# Altium footprint library Seeed-OPL-ic.PCBLIB: 95 footprints (part 4 of 6)
Each footprint in its own frame and in the unit in brackets; x right, y up, seen from the top. Pads: shape width x height; smd on the part's side, far side on the other; paste and mask are expansions set on the pad; w line width, h text height; cw(c..) or ccw(c..) is an arc to the next point about the centre after c.
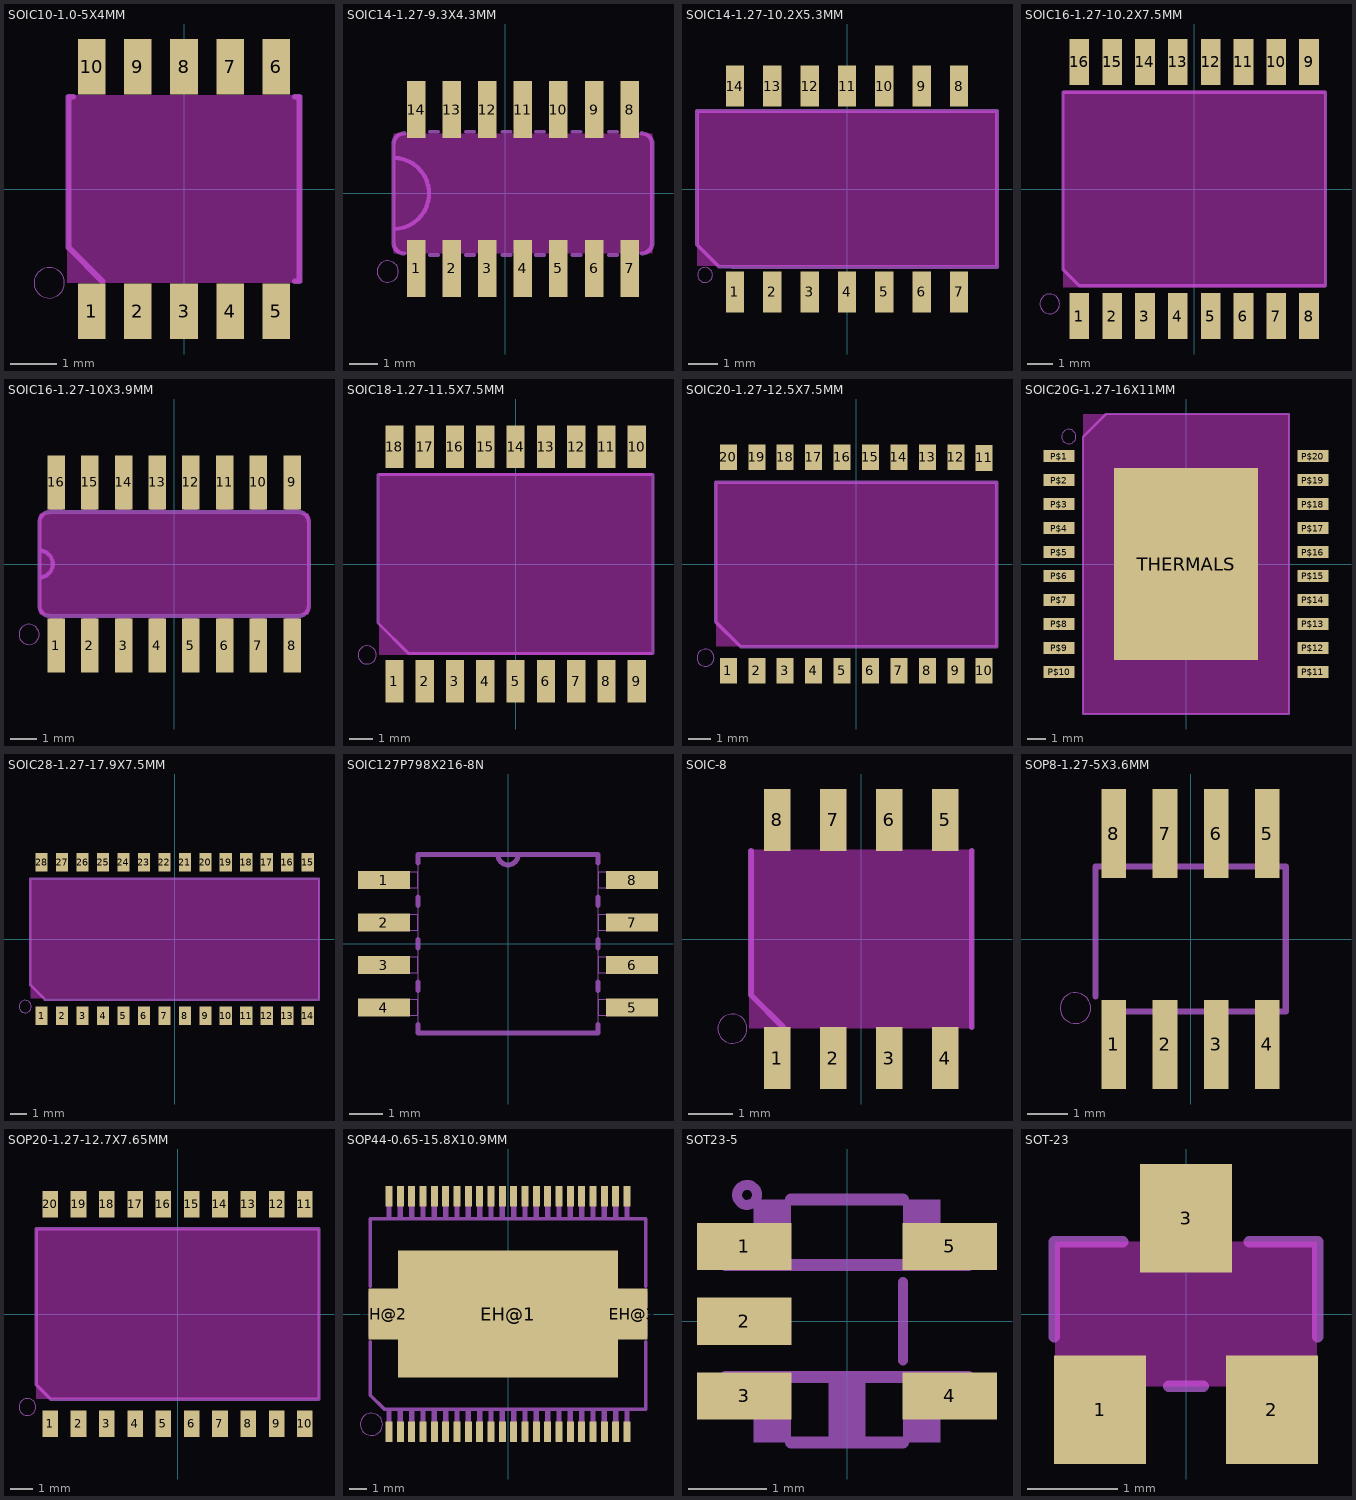
[diagram p3: the footprints below, top view; thin cyan lines are the x and y axes]

## SOIC10-1.0-5X4MM [mm]
pads (10):
  rect 0.6x1.2 smd: 1(-2,-2.65) 2(-1,-2.65) 3(0,-2.65) 4(1,-2.65) 5(2,-2.65) 6(2,2.65) 7(1,2.65) 8(0,2.65) 9(-1,2.65) 10(-2,2.65)
Keep-Out Layer:
  rectangle: -2.54,-2.032 2.54,2.032
Mechanical 2:
  circle w0: c-2.921,-2.032 r0.33
  lines w0.127: -2.4,2 -2.5,2 -2.5,-1.269 -1.769,-2 ; 2.4,-2 2.5,-2 2.5,2 2.4,2

## SOIC14-1.27-9.3X4.3MM [mil]
pads (14):
  rect 26x80 smd: 1(-125,-105.5) 2(-75,-105.5) 3(-25,-105.5) 4(25,-105.5) 5(75,-105.5) 6(125,-105.5) 7(175,-105.5) 8(175,118) 9(125,118) 10(75,118) 11(25,118) 12(-25,118) 13(-75,118) 14(-125,118)
Keep-Out Layer:
  rectangle: -157,-84.5 207,84.5
Mechanical 2:
  circle w0: c-165.16,-109.84 r15
  rectangle: -135,-89.5 -115,-84.5
  rectangle: -135,-89.5 -115,-84.5
  rectangle: -85,-89.5 -65,-84.5
  rectangle: -35,-89.5 -15,-84.5
  rectangle: 15,-89.5 35,-84.5
  rectangle: 65,-89.5 85,-84.5
  rectangle: 115,-89.5 135,-84.5
  rectangle: 165,-89.5 185,-84.5
  rectangle: -135,84.5 -115,89.5
  rectangle: -135,84.5 -115,89.5
  rectangle: -85,84.5 -65,89.5
  rectangle: -35,84.5 -15,89.5
  rectangle: 15,84.5 35,89.5
  rectangle: 65,84.5 85,89.5
  rectangle: 115,84.5 135,89.5
  rectangle: 165,84.5 185,89.5
  lines w5: -106.3,-86.61 -94.49,-86.61 ; -106.3,86.61 -94.49,86.61 ; -55.12,-86.61 -43.31,-86.61 ; -55.12,86.61 -43.31,86.61 ; -3.94,-86.61 7.87,-86.61 ; -3.94,86.61 7.87,86.61 ; 43.31,-86.61 55.12,-86.61 ; 43.31,86.61 55.12,86.61 ; 94.49,-86.61 106.3,-86.61 ; 94.49,86.61 106.3,86.61 ; 145.67,-86.61 157.48,-86.61 ; 145.67,86.61 157.48,86.61
  lines w6: -142,-84.5 cw(c-142,-69.5) -157,-69.5 -157,-50 ; -142,84.5 ccw(c-142,69.5) -157,69.5 -157,50 ; 192,-84.5 ccw(c192,-69.5) 207,-69.5 207,69.5 ccw(c192,69.5) 192,84.5 ; -157,-50 -157,50 ; -157,-50 ccw(c-157,0) -157,50
Mechanical 18:
  rectangle: -135,-135 -115,-77
  rectangle: -85,-135 -65,-77
  rectangle: -35,-135 -15,-77
  rectangle: 15,-135 35,-77
  rectangle: 65,-135 85,-77
  rectangle: 115,-135 135,-77
  rectangle: 165,-135 185,-77
  rectangle: -135,89.5 -115,147.5
  rectangle: -85,89.5 -65,147.5
  rectangle: -35,89.5 -15,147.5
  rectangle: 15,89.5 35,147.5
  rectangle: 65,89.5 85,147.5
  rectangle: 115,89.5 135,147.5
  rectangle: 165,89.5 185,147.5

## SOIC14-1.27-10.2X5.3MM [mm]
pads (14):
  rect 0.62x1.4 smd: 1(-3.81,-3.5) 2(-2.54,-3.5) 3(-1.27,-3.5) 4(0,-3.5) 5(1.27,-3.5) 6(2.54,-3.5) 7(3.81,-3.5) 8(3.81,3.5) 9(2.54,3.5) 10(1.27,3.5) 11(0,3.5) 12(-1.27,3.5) 13(-2.54,3.5) 14(-3.81,3.5)
Keep-Out Layer:
  rectangle: -5.1,-2.62 5.1,2.65
Mechanical 2:
  circle w0: c-4.826,-2.921 r0.254
  lines w0.127: -5.1,-1.898 -4.348,-2.644 -3.896,-2.65 5.1,-2.65 5.1,2.65 -5.1,2.65 -5.1,-1.898

## SOIC16-1.27-10.2X7.5MM [mil]
pads (16):
  rect 30x70 smd: 1(-175,-193.5) 2(-125,-193.5) 3(-75,-193.5) 4(-25,-193.5) 5(25,-193.5) 6(75,-193.5) 7(125,-193.5) 8(175,-193.5) 9(175,193.5) 10(125,193.5) 11(75,193.5) 12(25,193.5) 13(-25,193.5) 14(-75,193.5) 15(-125,193.5) 16(-175,193.5)
Keep-Out Layer:
  rectangle: -200,-150 200,150
Mechanical 2:
  circle w0: c-220,-175 r15
  lines w5: -200,-122.38 -174.88,-147.5 200,-147.5 200,147.5 -200,147.5 -200,-122.38

## SOIC16-1.27-10X3.9MM [mil]
pads (16):
  rect 26x80 smd: 1(-175,-121) 2(-125,-121) 3(-75,-121) 4(-25,-121) 5(25,-121) 6(75,-121) 7(125,-121) 8(175,-121) 9(175,121) 10(125,121) 11(75,121) 12(25,121) 13(-25,121) 14(-75,121) 15(-125,121) 16(-175,121)
Keep-Out Layer:
  rectangle: -200,-75 200,75
Mechanical 2:
  circle w0: c-215.16,-104.53 r15
  lines w6: -200,-20 ccw(c-200,0) -200,20 ; -200,-62 ccw(c-185,-62) -185,-77 185,-77 ccw(c185,-62) 200,-62 200,62 ccw(c185,62) 185,77 -185,77 ccw(c-185,62) -200,62 -200,-62
Mechanical 18:
  rectangle: -35,77 -15,122
  rectangle: -185,-122 -165,-77
  rectangle: -135,-122 -115,-77
  rectangle: -85,-121 -65,-76
  rectangle: -35,-122 -15,-77
  rectangle: -85,77 -65,122
  rectangle: -135,77 -115,122
  rectangle: -185,77 -165,122
  rectangle: 15,-122 35,-77
  rectangle: 65,-122 85,-77
  rectangle: 115,-122 135,-77
  rectangle: 165,-122 185,-77
  rectangle: 15,77 35,122
  rectangle: 65,77 85,122
  rectangle: 115,77 135,122
  rectangle: 165,77 185,122

## SOIC18-1.27-11.5X7.5MM [mil]
pads (18):
  rect 30x70 smd: 1(-200,-193.5) 2(-150,-193.5) 3(-100,-193.5) 4(-50,-193.5) 5(0,-193.5) 6(50,-193.5) 7(100,-193.5) 8(150,-193.5) 9(200,-193.5) 10(200,193.5) 11(150,193.5) 12(100,193.5) 13(50,193.5) 14(0,193.5) 15(-50,193.5) 16(-100,193.5) 17(-150,193.5) 18(-200,193.5)
Keep-Out Layer:
  rectangle: -225,-150 225,150
Mechanical 2:
  circle w0: c-245,-150 r15
  lines w5: -227,-97.5 -177,-147.5 227,-147.5 227,147.5 -227,147.5 -227,-97.5

## SOIC20-1.27-12.5X7.5MM [mil]
pads (20):
  rect 30x45 smd: 1(-225,-187) 2(-175,-187) 3(-125,-187) 4(-75,-187) 5(-25,-187) 6(25,-187) 7(75,-187) 8(125,-187) 9(175,-187) 10(225,-187) 11(225,187) 12(175,188) 13(125,188) 14(75,188) 15(25,188) 16(-25,188) 17(-75,188) 18(-125,188) 19(-175,188) 20(-225,188)
Keep-Out Layer:
  rectangle: -247.01,-145 247.01,144.02
Mechanical 2:
  circle w0: c-265.16,-164.37 r15
  lines w6: -247.01,-101.53 -247.01,144.02 247.01,144.02 247.01,-145 -203.54,-145 -247.01,-101.53

## SOIC20G-1.27-16X11MM [mil]
pads (21):
  rect 65x25 smd: P$1(-265,225) P$2(-265,175) P$3(-265,125) P$4(-265,75) P$5(-265,25) P$6(-265,-25) P$7(-265,-75) P$8(-265,-125) P$9(-265,-175) P$10(-265,-225) P$11(265,-225) P$12(265,-175) P$13(265,-125) P$14(265,-75) P$15(265,-25) P$16(265,25) P$17(265,75) P$18(265,125) P$19(265,175) P$20(265,225)
  rect 300x400 smd paste-200: THERMALS(0,0)
Top Paste:
  rectangle: -100,87.5 -25,162.5
  rectangle: 25,87.5 100,162.5
  rectangle: -100,-37.5 -25,37.5
  rectangle: 25,-37.5 100,37.5
  rectangle: -100,-162.5 -25,-87.5
  rectangle: 25,-162.5 100,-87.5
Keep-Out Layer:
  rectangle: -215,-313 215,313
Mechanical 2:
  circle w0: c-244.69,265.94 r15
  lines w5: -215,-313 215,-313 215,313 -167,313 -215,265 -215,-313

## SOIC28-1.27-17.9X7.5MM [mil]
pads (28):
  rect 30x45 smd: 1(-325,-187) 2(-275,-187) 3(-225,-187) 4(-175,-187) 5(-125,-187) 6(-75,-187) 7(-25,-187) 8(25,-187) 9(75,-187) 10(125,-187) 11(175,-187) 12(225,-187) 13(275,-187) 14(325,-187) 15(325,188) 16(275,188) 17(225,188) 18(175,188) 19(125,188) 20(75,188) 21(25,188) 22(-25,188) 23(-75,188) 24(-125,188) 25(-175,188) 26(-225,188) 27(-275,188) 28(-325,188)
Keep-Out Layer:
  rectangle: -352.36,-145 352.36,144.02
Mechanical 2:
  circle w0: c-365.16,-164.37 r15
  lines w6: -352.36,-112.13 -352.36,147.64 352.36,147.64 352.36,-147.64 -316.85,-147.64 -352.36,-112.13

## SOIC127P798X216-8N [mil]
pads (8):
  rect 61x21 smd: 1(-146,75) 2(-146,25) 3(-146,-25) 4(-146,-75) 5(146,-75) 6(146,-25) 7(146,25) 8(146,75)
Mechanical 2:
  lines w6: -106,-95 -106,-105 106,-105 106,-95 ; -106,-55 -106,-45 ; -106,-5 -106,5 ; -106,45 -106,55 ; -106,95 -106,105 -12,105 ; 106,-55 106,-45 ; 106,-5 106,5 ; 106,45 106,55 ; 106,95 106,105 12,105 ; -12,105 12,105 ; -12,105 ccw(c0,105) 12,105 ; -12,105 ccw(c0,105) 12,105
Mechanical 18:
  lines w0: -12,105 12,105 ; -12,105 -106,105 -106,-105 106,-105 106,105 12,105 ; -12,105 ccw(c0,105) 12,105 ; -12,105 ccw(c0,105) 12,105 ; -163,-84 -163,-66 -106,-66 -106,-84 -163,-84 ; -163,-34 -163,-16 -106,-16 -106,-34 -163,-34 ; -163,16 -163,34 -106,34 -106,16 -163,16 ; -163,66 -163,84 -106,84 -106,66 -163,66 ; 106,-84 106,-66 163,-66 163,-84 106,-84 ; 106,-34 106,-16 163,-16 163,-34 106,-34 ; 106,16 106,34 163,34 163,16 106,16 ; 106,66 106,84 163,84 163,66 106,66

## SOIC-8 [mm]
pads (8):
  rect 0.6x1.4 smd: 1(-1.905,-2.7) 2(-0.635,-2.7) 3(0.635,-2.7) 4(1.905,-2.7) 5(1.905,2.7) 6(0.635,2.7) 7(-0.635,2.7) 8(-1.905,2.7)
Keep-Out Layer:
  rectangle: -2.54,-2.032 2.54,2.032
Mechanical 2:
  circle w0: c-2.921,-2.032 r0.33
  lines w0.127: -2.5,2 -2.5,-1.269 -1.769,-2 ; 2.5,-2 2.5,2

## SOP8-1.27-5X3.6MM [mil]
pads (8):
  rect 24x87 smd: 1(-75,-103) 2(-25,-103) 3(25,-103) 4(75,-103) 5(75,103) 6(25,103) 7(-25,103) 8(-75,103)
Mechanical 2:
  circle w0: c-112.5,-67.5 r15
  lines w6: -92.99,-55.98 -92.99,70.98 ; 92.99,-70.98 92.99,70.98
Mechanical 18:
  rectangle: -82,-113 -68,-73
  rectangle: -32,-113 -18,-73
  rectangle: 18,-113 32,-73
  rectangle: 68,-113 82,-73
  rectangle: -82,73 -68,113
  rectangle: -32,73 -18,113
  rectangle: 18,73 32,113
  rectangle: 68,73 82,113
  lines w6: -92.99,70.98 92.99,70.98 ; -77.99,-70.98 92.99,-70.98

## SOP20-1.27-12.7X7.65MM [mm]
pads (20):
  rect 0.7x1.2 smd: 1(-5.715,-4.925) 2(-4.445,-4.925) 3(-3.175,-4.925) 4(-1.905,-4.925) 5(-0.635,-4.925) 6(0.635,-4.925) 7(1.905,-4.925) 8(3.175,-4.925) 9(4.445,-4.925) 10(5.715,-4.925) 11(5.715,4.925) 12(4.445,4.925) 13(3.175,4.925) 14(1.905,4.925) 15(0.635,4.925) 16(-0.635,4.925) 17(-1.905,4.925) 18(-3.175,4.925) 19(-4.445,4.925) 20(-5.715,4.925)
Keep-Out Layer:
  rectangle: -6.35,-3.825 6.35,3.825
Mechanical 2:
  circle w0: c-6.735,-4.175 r0.381
  lines w0.152: -6.35,-3.175 -6.35,3.825 6.35,3.825 6.35,-3.825 -5.7,-3.825 -6.35,-3.175

## SOP44-0.65-15.8X10.9MM [mm]
pads (47):
  rect 0.4x1.2 smd mask-0.6: 1(-6.825,-6.75) 2(-6.175,-6.75) 3(-5.525,-6.75) 4(-4.875,-6.75) 5(-4.225,-6.75) 6(-3.575,-6.75) 7(-2.925,-6.75) 8(-2.275,-6.75) 9(-1.625,-6.75) 10(-0.975,-6.75) 11(-0.325,-6.75) 12(0.325,-6.75) 13(0.975,-6.75) 14(1.625,-6.75) 15(2.275,-6.75) 16(2.925,-6.75) 17(3.575,-6.75) 18(4.225,-6.75) 19(4.875,-6.75) 20(5.525,-6.75) 21(6.175,-6.75) 22(6.825,-6.75) 23(6.825,6.75) 24(6.175,6.75) 25(5.525,6.75) 26(4.875,6.75) 27(4.225,6.75) 28(3.575,6.75) 29(2.925,6.75) 30(2.275,6.75) 31(1.625,6.75) 32(0.975,6.75) 33(0.325,6.75) 34(-0.325,6.75) 35(-0.975,6.75) 36(-1.625,6.75) 37(-2.275,6.75) 38(-2.925,6.75) 39(-3.575,6.75) 40(-4.225,6.75) 41(-4.875,6.75) 42(-5.525,6.75) 43(-6.175,6.75) 44(-6.825,6.75)
  rect 12.6x7.3 smd: EH@1(0,0)
  rect 1.7x2.9 smd: EH@2(-7.15,0) EH@3(7.15,0)
Top Solder:
  region: -6.6,-7.375 -6.6,-6.125 -7.05,-6.125 -7.05,-7.375
  region: -5.95,-7.375 -5.95,-6.125 -6.4,-6.125 -6.4,-7.375
  region: -5.3,-7.375 -5.3,-6.125 -5.75,-6.125 -5.75,-7.375
  region: -4.65,-7.375 -4.65,-6.125 -5.1,-6.125 -5.1,-7.375
  region: -4,-7.375 -4,-6.125 -4.45,-6.125 -4.45,-7.375
  region: -3.35,-7.375 -3.35,-6.125 -3.8,-6.125 -3.8,-7.375
  region: -2.7,-7.375 -2.7,-6.125 -3.15,-6.125 -3.15,-7.375
  region: -2.05,-7.375 -2.05,-6.125 -2.5,-6.125 -2.5,-7.375
  region: -1.4,-7.375 -1.4,-6.125 -1.85,-6.125 -1.85,-7.375
  region: -0.75,-7.375 -0.75,-6.125 -1.2,-6.125 -1.2,-7.375
  region: -0.1,-7.375 -0.1,-6.125 -0.55,-6.125 -0.55,-7.375
  region: 0.55,-7.375 0.55,-6.125 0.1,-6.125 0.1,-7.375
  region: 1.2,-7.375 1.2,-6.125 0.75,-6.125 0.75,-7.375
  region: 1.85,-7.375 1.85,-6.125 1.4,-6.125 1.4,-7.375
  region: 2.5,-7.375 2.5,-6.125 2.05,-6.125 2.05,-7.375
  region: 3.15,-7.375 3.15,-6.125 2.7,-6.125 2.7,-7.375
  region: 3.8,-7.375 3.8,-6.125 3.35,-6.125 3.35,-7.375
  region: 4.45,-7.375 4.45,-6.125 4,-6.125 4,-7.375
  region: 5.1,-7.375 5.1,-6.125 4.65,-6.125 4.65,-7.375
  region: 5.75,-7.375 5.75,-6.125 5.3,-6.125 5.3,-7.375
  region: 6.4,-7.375 6.4,-6.125 5.95,-6.125 5.95,-7.375
  region: 7.05,-7.375 7.05,-6.125 6.6,-6.125 6.6,-7.375
  region: 6.6,7.375 6.6,6.125 7.05,6.125 7.05,7.375
  region: 5.95,7.375 5.95,6.125 6.4,6.125 6.4,7.375
  region: 5.3,7.375 5.3,6.125 5.75,6.125 5.75,7.375
  region: 4.65,7.375 4.65,6.125 5.1,6.125 5.1,7.375
  region: 4,7.375 4,6.125 4.45,6.125 4.45,7.375
  region: 3.35,7.375 3.35,6.125 3.8,6.125 3.8,7.375
  region: 2.7,7.375 2.7,6.125 3.15,6.125 3.15,7.375
  region: 2.05,7.375 2.05,6.125 2.5,6.125 2.5,7.375
  region: 1.4,7.375 1.4,6.125 1.85,6.125 1.85,7.375
  region: 0.75,7.375 0.75,6.125 1.2,6.125 1.2,7.375
  region: 0.1,7.375 0.1,6.125 0.55,6.125 0.55,7.375
  region: -0.55,7.375 -0.55,6.125 -0.1,6.125 -0.1,7.375
  region: -1.2,7.375 -1.2,6.125 -0.75,6.125 -0.75,7.375
  region: -1.85,7.375 -1.85,6.125 -1.4,6.125 -1.4,7.375
  region: -2.5,7.375 -2.5,6.125 -2.05,6.125 -2.05,7.375
  region: -3.15,7.375 -3.15,6.125 -2.7,6.125 -2.7,7.375
  region: -3.8,7.375 -3.8,6.125 -3.35,6.125 -3.35,7.375
  region: -4.45,7.375 -4.45,6.125 -4,6.125 -4,7.375
  region: -5.1,7.375 -5.1,6.125 -4.65,6.125 -4.65,7.375
  region: -5.75,7.375 -5.75,6.125 -5.3,6.125 -5.3,7.375
  region: -6.4,7.375 -6.4,6.125 -5.95,6.125 -5.95,7.375
  region: -7.05,7.375 -7.05,6.125 -6.6,6.125 -6.6,7.375
Mechanical 2:
  circle w0: c-7.83,-6.326 r0.635
  lines w0.203: -7.9,-1.6 -7.9,-4.65 -7.1,-5.45 7.9,-5.45 7.9,-1.6 ; -7.9,1.6 -7.9,5.45 7.9,5.45 7.9,1.6
Mechanical 18:
  region: -6.675,-7.225 -6.675,-5.55 -6.975,-5.55 -6.975,-7.225
  region: -6.025,-7.225 -6.025,-5.55 -6.325,-5.55 -6.325,-7.225
  region: -5.375,-7.225 -5.375,-5.55 -5.675,-5.55 -5.675,-7.225
  region: -4.725,-7.225 -4.725,-5.55 -5.025,-5.55 -5.025,-7.225
  region: -4.075,-7.225 -4.075,-5.55 -4.375,-5.55 -4.375,-7.225
  region: -3.425,-7.225 -3.425,-5.55 -3.725,-5.55 -3.725,-7.225
  region: -2.775,-7.225 -2.775,-5.55 -3.075,-5.55 -3.075,-7.225
  region: -2.125,-7.225 -2.125,-5.55 -2.425,-5.55 -2.425,-7.225
  region: -1.475,-7.225 -1.475,-5.55 -1.775,-5.55 -1.775,-7.225
  region: -0.825,-7.225 -0.825,-5.55 -1.125,-5.55 -1.125,-7.225
  region: -0.175,-7.225 -0.175,-5.55 -0.475,-5.55 -0.475,-7.225
  region: 0.475,-7.225 0.475,-5.55 0.175,-5.55 0.175,-7.225
  region: 1.125,-7.225 1.125,-5.55 0.825,-5.55 0.825,-7.225
  region: 1.775,-7.225 1.775,-5.55 1.475,-5.55 1.475,-7.225
  region: 2.425,-7.225 2.425,-5.55 2.125,-5.55 2.125,-7.225
  region: 3.075,-7.225 3.075,-5.55 2.775,-5.55 2.775,-7.225
  region: 3.725,-7.225 3.725,-5.55 3.425,-5.55 3.425,-7.225
  region: 4.375,-7.225 4.375,-5.55 4.075,-5.55 4.075,-7.225
  region: 5.025,-7.225 5.025,-5.55 4.725,-5.55 4.725,-7.225
  region: 5.675,-7.225 5.675,-5.55 5.375,-5.55 5.375,-7.225
  region: 6.325,-7.225 6.325,-5.55 6.025,-5.55 6.025,-7.225
  region: 6.975,-7.225 6.975,-5.55 6.675,-5.55 6.675,-7.225
  region: 6.675,7.225 6.675,5.55 6.975,5.55 6.975,7.225
  region: 6.025,7.225 6.025,5.55 6.325,5.55 6.325,7.225
  region: 5.375,7.225 5.375,5.55 5.675,5.55 5.675,7.225
  region: 4.725,7.225 4.725,5.55 5.025,5.55 5.025,7.225
  region: 4.075,7.225 4.075,5.55 4.375,5.55 4.375,7.225
  region: 3.425,7.225 3.425,5.55 3.725,5.55 3.725,7.225
  region: 2.775,7.225 2.775,5.55 3.075,5.55 3.075,7.225
  region: 2.125,7.225 2.125,5.55 2.425,5.55 2.425,7.225
  region: 1.475,7.225 1.475,5.55 1.775,5.55 1.775,7.225
  region: 0.825,7.225 0.825,5.55 1.125,5.55 1.125,7.225
  region: 0.175,7.225 0.175,5.55 0.475,5.55 0.475,7.225
  region: -0.475,7.225 -0.475,5.55 -0.175,5.55 -0.175,7.225
  region: -1.125,7.225 -1.125,5.55 -0.825,5.55 -0.825,7.225
  region: -1.775,7.225 -1.775,5.55 -1.475,5.55 -1.475,7.225
  region: -2.425,7.225 -2.425,5.55 -2.125,5.55 -2.125,7.225
  region: -3.075,7.225 -3.075,5.55 -2.775,5.55 -2.775,7.225
  region: -3.725,7.225 -3.725,5.55 -3.425,5.55 -3.425,7.225
  region: -4.375,7.225 -4.375,5.55 -4.075,5.55 -4.075,7.225
  region: -5.025,7.225 -5.025,5.55 -4.725,5.55 -4.725,7.225
  region: -5.675,7.225 -5.675,5.55 -5.375,5.55 -5.375,7.225
  region: -6.325,7.225 -6.325,5.55 -6.025,5.55 -6.025,7.225
  region: -6.975,7.225 -6.975,5.55 -6.675,5.55 -6.675,7.225
  lines w0.203: -7.9,-1.25 -6.8,-1.25 -6.8,1.25 -7.9,1.25 -7.9,-1.25 ; 6.8,-1.25 7.9,-1.25 7.9,1.25 6.8,1.25 6.8,-1.25

## SOT23-5 [mm]
pads (5):
  rect 1.2x0.6 smd: 1(-1.306,0.95) 2(-1.306,0) 3(-1.306,-0.95) 4(1.306,-0.95) 5(1.306,0.95)
Mechanical 2:
  circle w0.127: c-1.27,1.605 r0.127
  lines w0.127: 0.712,-0.5 0.712,0.5
  lines w0.152: -0.712,-1.544 0.713,-1.544 ; -0.712,1.544 0.713,1.544
Mechanical 18:
  rectangle: -1.187,0.713 -0.712,1.544
  rectangle: 0.712,0.713 1.187,1.544
  rectangle: -1.187,-1.544 -0.712,-0.712
  rectangle: -0.237,-1.544 0.237,-0.712
  rectangle: 0.712,-1.544 1.187,-0.712
  lines w0.152: -1.544,-0.712 1.544,-0.712 ; -1.544,0.713 1.544,0.713

## SOT-23 [mil]
pads (3):
  rect 40x47.24 smd: 1(-37.4,-41.73) 2(37.4,-41.73) 3(0,41.73)
Keep-Out Layer:
  rectangle: -57.09,-31.5 57.09,31.5
Mechanical 2:
  lines w5: -57.5,-10 -57.5,31.5 -27.5,31.5 ; -7.5,-31.5 7.5,-31.5 ; 27.5,31.5 57.5,31.5 57.5,-10
Mechanical 18:
  rectangle: -9,33 9,56
  rectangle: 28,-56 46,-33
  rectangle: -46,-56 -28,-33